# EAGLE library part T8Q144 (library EfinixTrio)
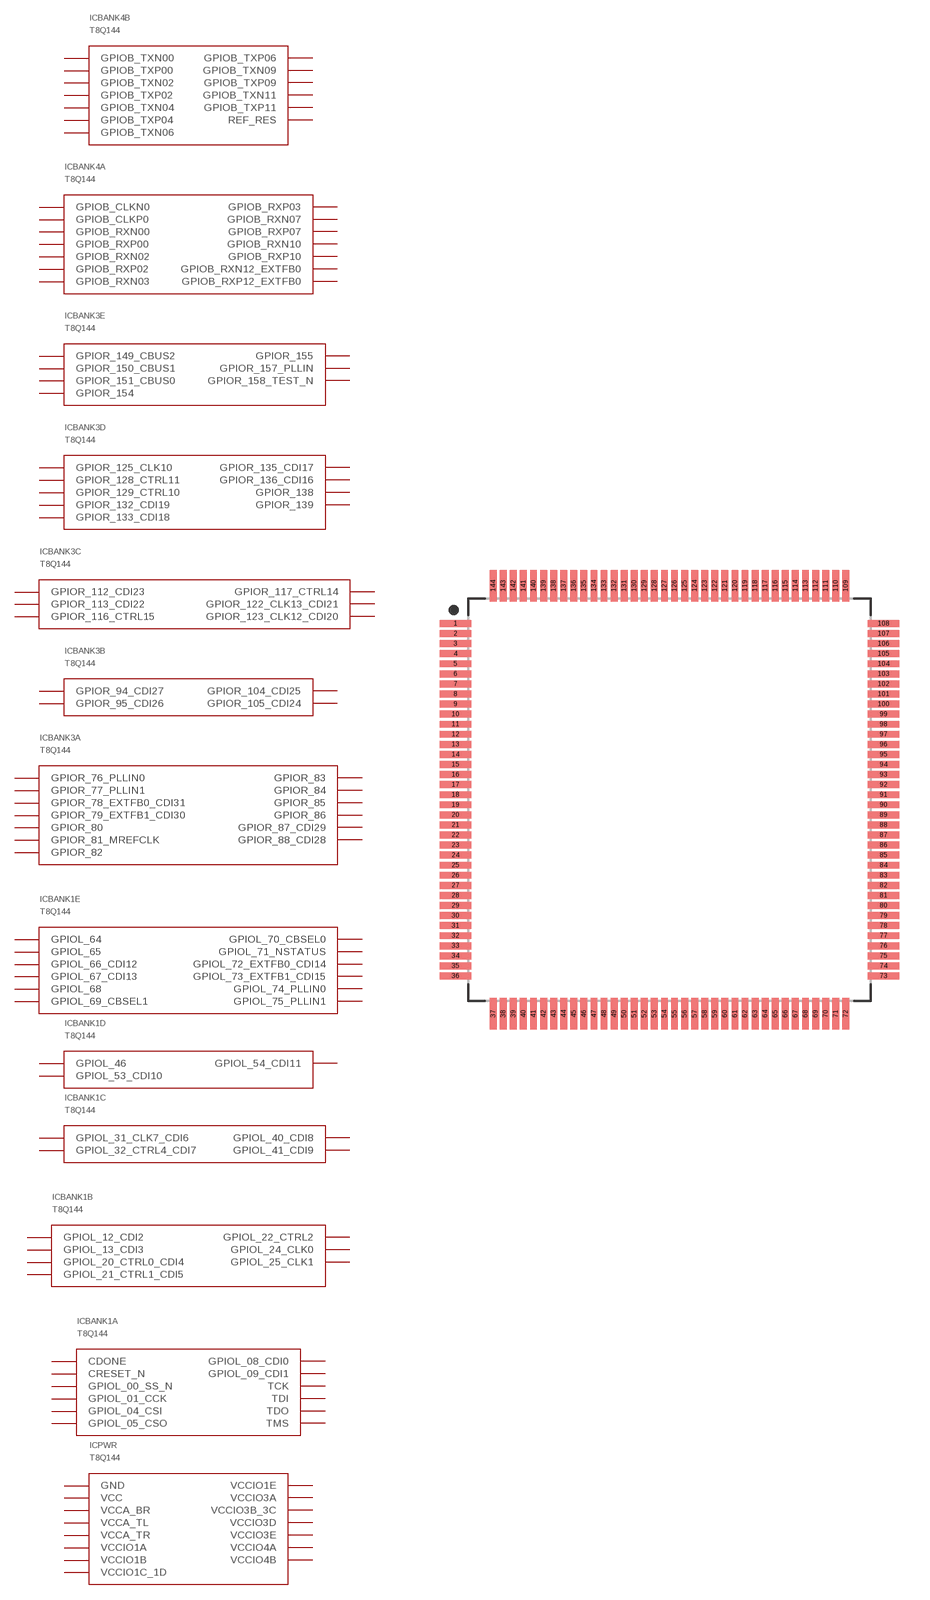
[diagram p20: symbol with the pads of LQFP144; footprint LQFP144]

Designator prefix IC; gates PWR=T8Q144PWR BANK1A=T8Q144BANK1A BANK1B=T8Q144BANK1B BANK1C=T8Q144BANK1C BANK1D=T8Q144BANK1D BANK1E=T8Q144BANK1E BANK3A=T8Q144BANK3A BANK3B=T8Q144BANK3B BANK3C=T8Q144BANK3C BANK3D=T8Q144BANK3D BANK3E=T8Q144BANK3E BANK4A=T8Q144BANK4A BANK4B=T8Q144BANK4B

## T8Q144  [LQFP144]
1  PWR:GND  pwr
2  PWR:VCCA_TL  pwr
3  BANK1D:GPIOL_53_CDI10
4  BANK1D:GPIOL_54_CDI11
5  PWR:GND  pwr
6  BANK1D:GPIOL_46
7  BANK1C:GPIOL_41_CDI9
8  BANK1C:GPIOL_40_CDI8
9  PWR:GND  pwr
10  BANK1C:GPIOL_32_CTRL4_CDI7
11  BANK1C:GPIOL_31_CLK7_CDI6
12  PWR:VCCIO1C_1D  pwr
13  PWR:VCC  pwr
14  BANK1B:GPIOL_25_CLK1
15  BANK1B:GPIOL_24_CLK0
16  BANK1B:GPIOL_22_CTRL2
17  BANK1B:GPIOL_21_CTRL1_CDI5
18  BANK1B:GPIOL_20_CTRL0_CDI4
19  BANK1B:GPIOL_13_CDI3
20  BANK1B:GPIOL_12_CDI2
21  PWR:VCCIO1B  pwr
22  PWR:VCC  pwr
23  PWR:VCCIO1A  pwr
24  BANK1A:TDO
25  BANK1A:TMS
26  BANK1A:TCK
27  BANK1A:TDI
28  BANK1A:GPIOL_09_CDI1
29  BANK1A:GPIOL_08_CDI0
30  BANK1A:GPIOL_01_CCK
31  BANK1A:GPIOL_00_SS_N
32  BANK1A:GPIOL_04_CSI
33  BANK1A:GPIOL_05_CSO
34  BANK1A:CDONE
35  BANK1A:CRESET_N
36  BANK4B:REF_RES
37  PWR:GND  pwr
38  BANK4B:GPIOB_TXP00
39  BANK4B:GPIOB_TXN00
40  BANK4B:GPIOB_TXP02
41  BANK4B:GPIOB_TXN02
42  BANK4B:GPIOB_TXP04
43  BANK4B:GPIOB_TXN04
44  PWR:GND  pwr
45  BANK4B:GPIOB_TXP06
46  BANK4B:GPIOB_TXN06
47  BANK4B:GPIOB_TXP09
48  BANK4B:GPIOB_TXN09
49  PWR:VCC  pwr
50  PWR:GND  pwr
51  PWR:VCCIO4B  pwr
52  PWR:VCCIO4B  pwr
53  BANK4B:GPIOB_TXP11
54  BANK4B:GPIOB_TXN11
55  BANK4A:GPIOB_RXP00
56  BANK4A:GPIOB_RXN00
57  PWR:VCC  pwr
58  BANK4A:GPIOB_RXP02
59  BANK4A:GPIOB_RXN02
60  BANK4A:GPIOB_RXN03
61  BANK4A:GPIOB_RXP03
62  PWR:VCCIO4A  pwr
63  PWR:VCCIO4A  pwr
64  PWR:GND  pwr
65  BANK4A:GPIOB_RXN07
66  BANK4A:GPIOB_RXP07
67  BANK4A:GPIOB_RXP10
68  BANK4A:GPIOB_RXN10
69  BANK4A:GPIOB_RXN12_EXTFB0
70  BANK4A:GPIOB_RXP12_EXTFB0
71  BANK4A:GPIOB_CLKP0
72  BANK4A:GPIOB_CLKN0
73  PWR:VCCA_BR  pwr
74  BANK3E:GPIOR_158_TEST_N
75  BANK3E:GPIOR_157_PLLIN
76  BANK3E:GPIOR_155
77  BANK3E:GPIOR_154
78  BANK3E:GPIOR_151_CBUS0
79  BANK3E:GPIOR_150_CBUS1
80  BANK3E:GPIOR_149_CBUS2
81  BANK3D:GPIOR_139
82  BANK3D:GPIOR_138
83  BANK3D:GPIOR_136_CDI16
84  BANK3D:GPIOR_135_CDI17
85  PWR:VCC  pwr
86  BANK3D:GPIOR_133_CDI18
87  BANK3D:GPIOR_132_CDI19
88  PWR:VCCIO3E  pwr
89  BANK3D:GPIOR_129_CTRL10
90  BANK3D:GPIOR_128_CTRL11
91  PWR:VCCIO3D  pwr
92  BANK3D:GPIOR_125_CLK10
93  BANK3C:GPIOR_123_CLK12_CDI20
94  PWR:GND  pwr
95  PWR:VCCIO3B_3C  pwr
96  PWR:VCC  pwr
97  BANK3C:GPIOR_122_CLK13_CDI21
98  BANK3C:GPIOR_117_CTRL14
99  BANK3C:GPIOR_116_CTRL15
100  BANK3C:GPIOR_113_CDI22
101  BANK3C:GPIOR_112_CDI23
102  BANK3B:GPIOR_105_CDI24
103  BANK3B:GPIOR_104_CDI25
104  PWR:GND  pwr
105  BANK3B:GPIOR_95_CDI26
106  BANK3B:GPIOR_94_CDI27
107  PWR:VCCA_TR  pwr
108  PWR:GND  pwr
109  BANK3A:GPIOR_88_CDI28
110  BANK3A:GPIOR_87_CDI29
111  BANK3A:GPIOR_85
112  BANK3A:GPIOR_86
113  BANK3A:GPIOR_84
114  BANK3A:GPIOR_83
115  BANK3A:GPIOR_82
116  BANK3A:GPIOR_81_MREFCLK
117  BANK3A:GPIOR_80
118  BANK3A:GPIOR_79_EXTFB1_CDI30
119  BANK3A:GPIOR_78_EXTFB0_CDI31
120  PWR:GND  pwr
121  PWR:GND  pwr
122  PWR:VCCIO3A  pwr
123  BANK3A:GPIOR_77_PLLIN1
124  BANK3A:GPIOR_76_PLLIN0
125  PWR:VCC  pwr
126  PWR:GND  pwr
127  PWR:GND  pwr
128  PWR:VCC  pwr
129  PWR:GND  pwr
130  PWR:VCC  pwr
131  BANK1E:GPIOL_75_PLLIN1
132  BANK1E:GPIOL_74_PLLIN0
133  PWR:GND  pwr
134  BANK1E:GPIOL_73_EXTFB1_CDI15
135  BANK1E:GPIOL_72_EXTFB0_CDI14
136  BANK1E:GPIOL_71_NSTATUS
137  BANK1E:GPIOL_70_CBSEL0
138  BANK1E:GPIOL_69_CBSEL1
139  BANK1E:GPIOL_68
140  BANK1E:GPIOL_67_CDI13
141  BANK1E:GPIOL_65
142  BANK1E:GPIOL_66_CDI12
143  PWR:VCCIO1E  pwr
144  BANK1E:GPIOL_64

## Footprint LQFP144 (pad centres in mm)
144-QFP, 0.50 mm pitch, 22.00 mm span, 20.00 X 20.00 X 1.60 mm body 144-pin QFP package with 0.50 mm pitch, 22.00 mm lead span1 X 22.00 mm lead span2 with body size 20.00 X 20.00 X 1.60 mm
smd 1.562 x 0.342: 1 -10.625,8.75; 2 -10.625,8.25; 3 -10.625,7.75; 4 -10.625,7.25; 5 -10.625,6.75; 6 -10.625,6.25; 7 -10.625,5.75; 8 -10.625,5.25; 9 -10.625,4.75; 10 -10.625,4.25; 11 -10.625,3.75; 12 -10.625,3.25; 13 -10.625,2.75; 14 -10.625,2.25; 15 -10.625,1.75; 16 -10.625,1.25; 17 -10.625,0.75; 18 -10.625,0.25; 19 -10.625,-0.25; 20 -10.625,-0.75; 21 -10.625,-1.25; 22 -10.625,-1.75; 23 -10.625,-2.25; 24 -10.625,-2.75; 25 -10.625,-3.25; 26 -10.625,-3.75; 27 -10.625,-4.25; 28 -10.625,-4.75; 29 -10.625,-5.25; 30 -10.625,-5.75; 31 -10.625,-6.25; 32 -10.625,-6.75; 33 -10.625,-7.25; 34 -10.625,-7.75; 35 -10.625,-8.25; 36 -10.625,-8.75; 73 10.625,-8.75; 74 10.625,-8.25; 75 10.625,-7.75; 76 10.625,-7.25; 77 10.625,-6.75; 78 10.625,-6.25; 79 10.625,-5.75; 80 10.625,-5.25; 81 10.625,-4.75; 82 10.625,-4.25; 83 10.625,-3.75; 84 10.625,-3.25; 85 10.625,-2.75; 86 10.625,-2.25; 87 10.625,-1.75; 88 10.625,-1.25; 89 10.625,-0.75; 90 10.625,-0.25; 91 10.625,0.25; 92 10.625,0.75; 93 10.625,1.25; 94 10.625,1.75; 95 10.625,2.25; 96 10.625,2.75; 97 10.625,3.25; 98 10.625,3.75; 99 10.625,4.25; 100 10.625,4.75; 101 10.625,5.25; 102 10.625,5.75; 103 10.625,6.25; 104 10.625,6.75; 105 10.625,7.25; 106 10.625,7.75; 107 10.625,8.25; 108 10.625,8.75
smd 0.342 x 1.562: 37 -8.75,-10.625; 38 -8.25,-10.625; 39 -7.75,-10.625; 40 -7.25,-10.625; 41 -6.75,-10.625; 42 -6.25,-10.625; 43 -5.75,-10.625; 44 -5.25,-10.625; 45 -4.75,-10.625; 46 -4.25,-10.625; 47 -3.75,-10.625; 48 -3.25,-10.625; 49 -2.75,-10.625; 50 -2.25,-10.625; 51 -1.75,-10.625; 52 -1.25,-10.625; 53 -0.75,-10.625; 54 -0.25,-10.625; 55 0.25,-10.625; 56 0.75,-10.625; 57 1.25,-10.625; 58 1.75,-10.625; 59 2.25,-10.625; 60 2.75,-10.625; 61 3.25,-10.625; 62 3.75,-10.625; 63 4.25,-10.625; 64 4.75,-10.625; 65 5.25,-10.625; 66 5.75,-10.625; 67 6.25,-10.625; 68 6.75,-10.625; 69 7.25,-10.625; 70 7.75,-10.625; 71 8.25,-10.625; 72 8.75,-10.625; 109 8.75,10.625; 110 8.25,10.625; 111 7.75,10.625; 112 7.25,10.625; 113 6.75,10.625; 114 6.25,10.625; 115 5.75,10.625; 116 5.25,10.625; 117 4.75,10.625; 118 4.25,10.625; 119 3.75,10.625; 120 3.25,10.625; 121 2.75,10.625; 122 2.25,10.625; 123 1.75,10.625; 124 1.25,10.625; 125 0.75,10.625; 126 0.25,10.625; 127 -0.25,10.625; 128 -0.75,10.625; 129 -1.25,10.625; 130 -1.75,10.625; 131 -2.25,10.625; 132 -2.75,10.625; 133 -3.25,10.625; 134 -3.75,10.625; 135 -4.25,10.625; 136 -4.75,10.625; 137 -5.25,10.625; 138 -5.75,10.625; 139 -6.25,10.625; 140 -6.75,10.625; 141 -7.25,10.625; 142 -7.75,10.625; 143 -8.25,10.625; 144 -8.75,10.625